# EAGLE library part TXB0104 (library pixhawk2-import)
4-BIT BIDIRECTIONAL VOLTAGE-LEVEL TRANSLATOR WITH AUTOMATIC DIRECTION SENSING AND ±15-kV ESD PROTECTION
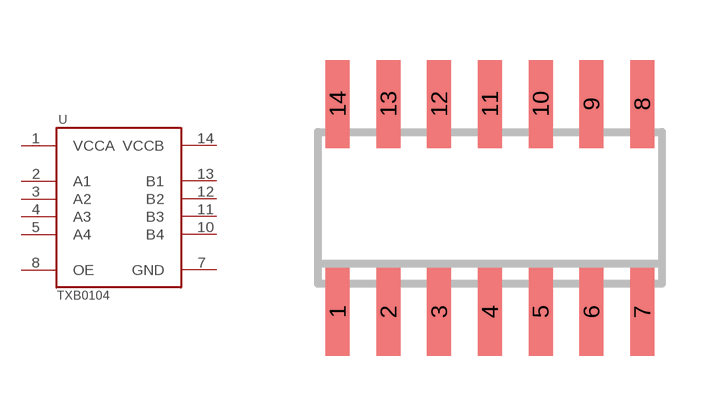
[diagram p8: symbol with the pads of SO14; footprint SO14]

Designator prefix U

## TXB0104  [SO14]
1  VCCA  sup
2  A1
3  A2
4  A3
5  A4
6  P$1  nc
7  GND  sup
8  OE  in
9  P$2  nc
10  B4
11  B3
12  B2
13  B1
14  VCCB  sup

## Footprint SO14 (pad centres in mm)
SMALL OUTLINE INTEGRATED CIRCUIT body 3.9 mm/JEDEC MS-012AC
smd 0.6 x 2.2: 1 -3.81,-2.6; 2 -2.54,-2.6; 3 -1.27,-2.6; 4 0,-2.6; 5 1.27,-2.6; 6 2.54,-2.6; 7 3.81,-2.6; 8 3.81,2.6; 9 2.54,2.6; 10 1.27,2.6; 11 0,2.6; 12 -1.27,2.6; 13 -2.54,2.6; 14 -3.81,2.6